# Altium footprint library rcl.PCBLIB: 487 footprints (part 19 of 31)
Each footprint in its own frame and in the unit in brackets; x right, y up, seen from the top. Pads: shape width x height; smd on the part's side, far side on the other; paste and mask are expansions set on the pad; w line width, h text height; cw(c..) or ccw(c..) is an arc to the next point about the centre after c.
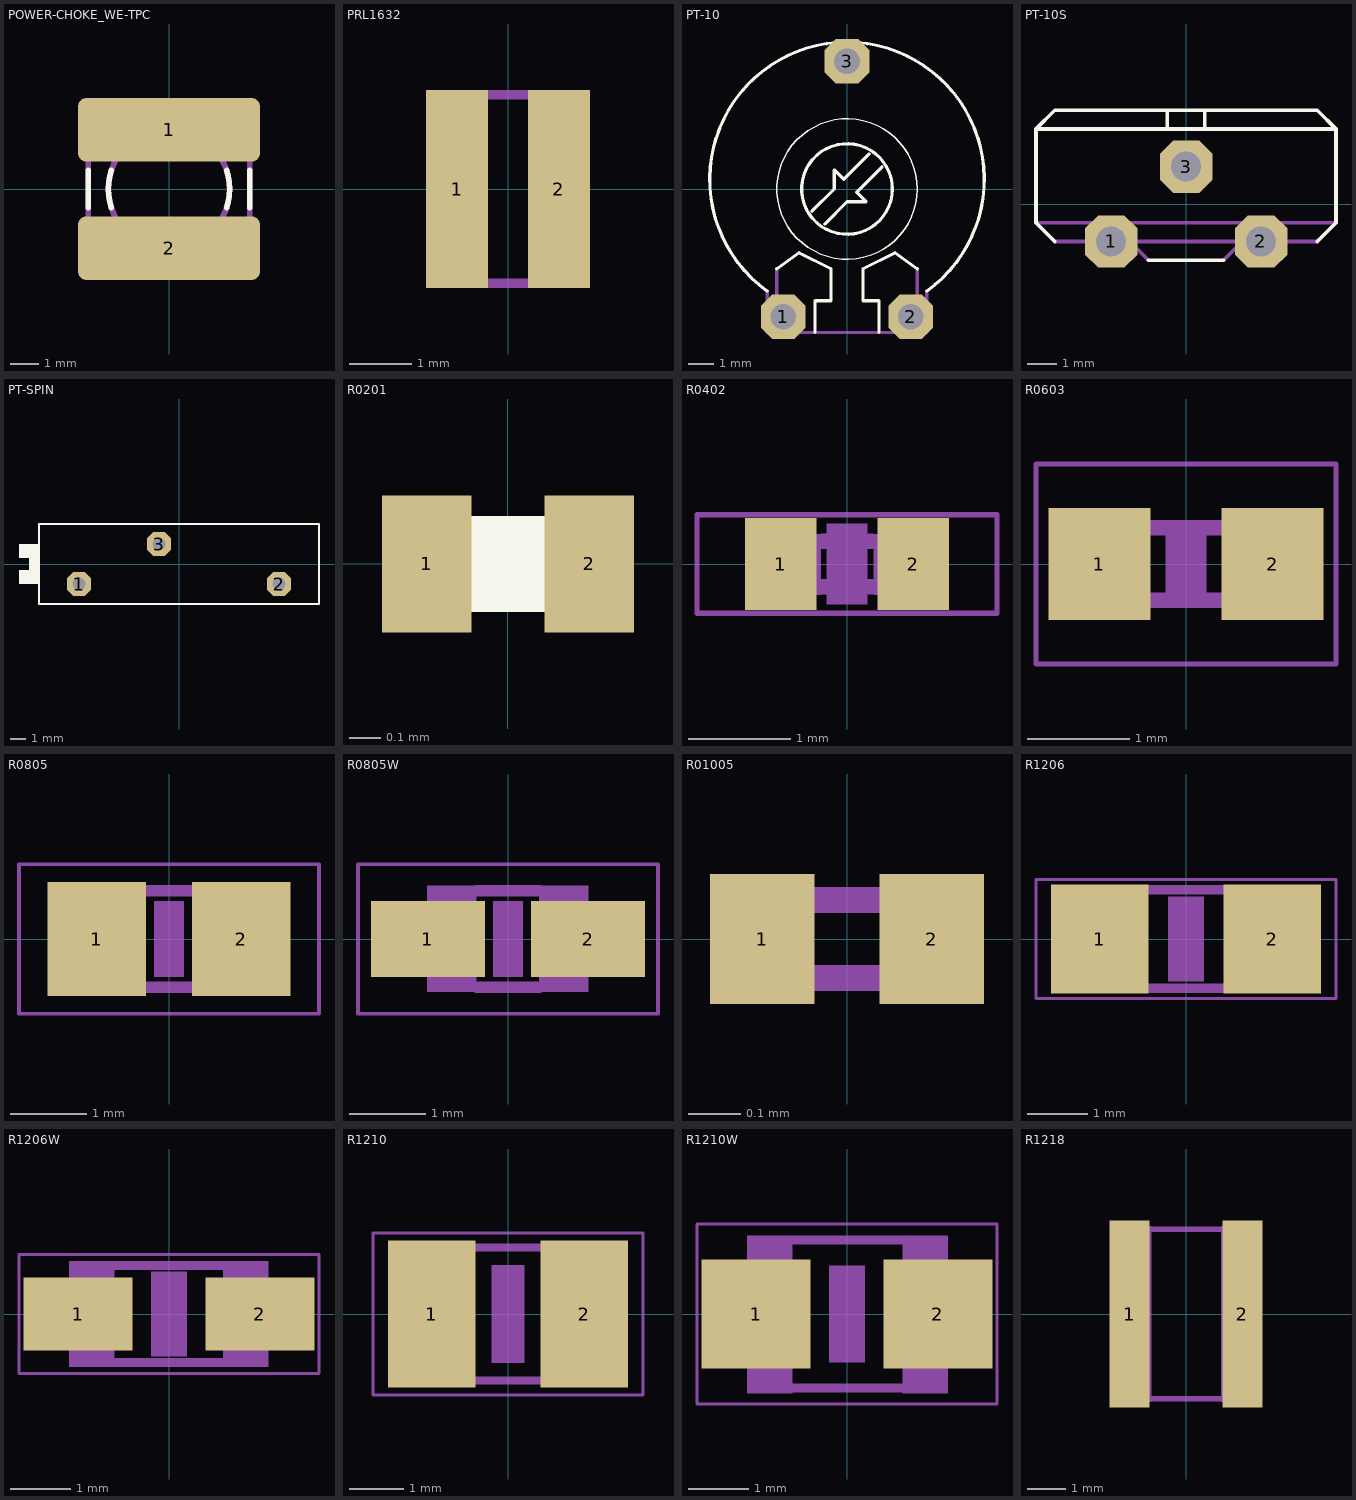
[diagram p18: the footprints below, top view; thin cyan lines are the x and y axes]

## POWER-CHOKE_WE-TPC [mil]
pads (2):
  rrect25% 248.03x86.61 smd: 1(0,80.71) 2(0,-80.71)
Top Overlay:
  lines w7.87: -110.24,-25.59 -110.24,25.59 ; -78.74,-25.59 cw(c0,0) -78.74,25.59 ; 78.74,-25.59 ccw(c0,0) 78.74,25.59 ; 110.24,-25.59 110.24,25.59
Mechanical 16:
  circle w7.87: c0,0 r82.68
  lines w7.87: -110.24,-90.55 ccw(c-90.55,-90.55) -90.55,-110.24 90.55,-110.24 ccw(c90.55,-90.55) 110.24,-90.55 110.24,90.55 ccw(c90.55,90.55) 90.55,110.24 -90.55,110.24 ccw(c-90.55,90.55) -110.24,90.55 -110.24,-90.55

## PRL1632 [mm]
pads (2):
  rect 1x3.2 smd: 1(-0.822,0) 2(0.822,0)
Mechanical 16:
  rectangle: -0.8,-1.6 -0.4,1.6
  rectangle: 0.4,-1.6 0.8,1.6
  lines w0.152: -0.728,-1.523 0.727,-1.523 ; -0.715,1.523 0.727,1.523

## PT-10 [mil]
pads (3):
  oct 70x70 hole 40: 1(-100,-200) 2(100,-200) 3(0,200)
Top Overlay:
  circle w2: c0,0 r110
  circle w5: c0,0 r71
  lines w5: -125,-160 cw(c0,15) 125,-160 ; -110,-125 -75,-100 -25,-125 -25,-175 -50,-175 -50,-225 ; -55,-35 -20,0 -20,30 -5,15 35,55 ; -35,-55 0,-20 30,-20 15,-5 55,35 ; 50,-225 50,-175 25,-175 25,-125 75,-100 110,-125
Mechanical 16:
  lines w5: -125,-160 -125,-225 125,-225 125,-160 ; -110,-225 -110,-125 ; 110,-225 110,-125

## PT-10S [mil]
pads (3):
  oct 70x70 hole 40: 1(-100,-50) 2(100,-50) 3(0,50)
Top Overlay:
  lines w5: -175,-50 -200,-25 -200,100 ; -50,-75 50,-75 ; -25,100 -25,125 ; 25,100 25,125 ; 175,-50 200,-25 200,100 ; -200,100 200,100 ; -200,100 -175,125 175,125 200,100
Mechanical 16:
  lines w5: -200,-25 200,-25 ; -175,-50 175,-50 ; -75,-50 -50,-75 ; 50,-75 75,-50

## PT-SPIN [mil]
pads (3):
  oct 60x60 hole 32: 1(-250,-50) 2(250,-50) 3(-50,50)
Top Overlay:
  rectangle: -400,-50 -375,-15
  rectangle: -400,15 -375,50
  rectangle: -375,-50 -350,50
  lines w5: -350,-100 -350,100 350,100 350,-100 -350,-100

## R0201 [mm]
pads (2):
  rect 0.28x0.43 smd: 1(-0.255,0) 2(0.255,0)
Top Overlay:
  rectangle: -0.15,-0.15 0.15,0.15
Mechanical 16:
  rectangle: -0.3,-0.15 -0.15,0.15
  rectangle: 0.15,-0.15 0.3,0.15

## R0402 [mm]
pads (2):
  rect 0.7x0.9 smd: 1(-0.65,0) 2(0.65,0)
Mechanical 6:
  rectangle: -0.2,-0.4 0.2,0.4
Mechanical 16:
  rectangle: 0.259,-0.305 0.559,0.295
  rectangle: -0.554,-0.305 -0.254,0.295
  lines w0.152: -0.245,-0.224 0.245,-0.224 ; -0.245,0.224 0.245,0.224
Mechanical 27:
  lines w0.051: -1.473,-0.483 -1.473,0.483 1.473,0.483 1.473,-0.483 -1.473,-0.483

## R0603 [mm]
pads (2):
  rect 1x1.1 smd: 1(-0.85,0) 2(0.85,0)
Mechanical 6:
  rectangle: -0.2,-0.4 0.2,0.4
Mechanical 16:
  rectangle: -0.838,-0.432 -0.432,0.432
  rectangle: 0.432,-0.432 0.838,0.432
  lines w0.152: -0.432,-0.356 0.432,-0.356 ; -0.432,0.356 0.432,0.356
Mechanical 27:
  lines w0.051: -1.473,-0.983 -1.473,0.983 1.473,0.983 1.473,-0.983 -1.473,-0.983

## R0805 [mil]
pads (2):
  rect 51.18x59.06 smd: 1(-37.4,0) 2(37.4,0)
Mechanical 6:
  rectangle: -7.87,-19.69 7.87,19.69
Mechanical 16:
  rectangle: 16,-27.5 41.59,27.62
  rectangle: -42,-27.5 -16.41,27.62
  lines w6: -16.14,-25 16.14,-25 ; -16.14,25 16.14,25
Mechanical 27:
  lines w2: -77.68,-38.7 77.68,-38.7 77.68,38.7 -77.68,38.7 -77.68,-38.7
3D body: height 29.92, standoff 0, extent -45.27,-26.57 45.28,26.58

## R0805W [mm]
pads (2):
  rect 1.5x1 smd: 1(-1.053,0) 2(1.053,0)
Mechanical 6:
  rectangle: -0.2,-0.5 0.2,0.5
Mechanical 16:
  rectangle: -1.067,-0.699 -0.417,0.702
  rectangle: 0.406,-0.699 1.056,0.702
  lines w0.152: -0.41,-0.635 0.41,-0.635 ; -0.41,0.635 0.41,0.635
Mechanical 27:
  lines w0.051: -1.973,-0.983 -1.973,0.983 1.973,0.983 1.973,-0.983 -1.973,-0.983

## R01005 [mil]
pads (2):
  rect 7.87x9.84 smd: 1(-6.4,0) 2(6.4,0)
Mechanical 16:
  rectangle: -7.87,-3.94 -2.95,3.94
  rectangle: 2.95,-3.94 7.87,3.94
  rectangle: -5.91,1.97 5.91,3.94
  rectangle: -5.91,-3.94 5.91,-1.97

## R1206 [mil]
pads (2):
  rect 62.99x70.98 smd: 1(-55.98,0) 2(55.98,0)
Mechanical 6:
  rectangle: -11.81,-27.56 11.81,27.56
Mechanical 16:
  rectangle: 37.5,-34.5 66.5,34.5
  rectangle: -66.5,-34.5 -37.5,34.5
  lines w6: -38,-32 37.5,-32 ; -38,32 37.5,32
Mechanical 27:
  lines w2: -97.36,-38.7 -97.36,38.7 97.36,38.7 97.36,-38.7 -97.36,-38.7

## R1206W [mil]
pads (2):
  rect 70.87x47.24 smd: 1(-59.02,0) 2(59.02,0)
Mechanical 6:
  rectangle: -11.81,-27.56 11.81,27.56
Mechanical 16:
  rectangle: 35,-34.5 64.53,34.4
  rectangle: -65,-34.5 -35.47,34.4
  lines w6: -35.94,-31.5 34.96,-31.5 ; -35.94,31.5 34.96,31.5
Mechanical 27:
  lines w2: -97.36,-38.7 -97.36,38.7 97.36,38.7 97.36,-38.7 -97.36,-38.7

## R1210 [mil]
pads (2):
  rect 62.99x106.3 smd: 1(-55.12,0) 2(55.12,0)
Mechanical 6:
  rectangle: -11.81,-35.43 11.81,35.43
Mechanical 16:
  rectangle: -65,-51.5 -35.47,50.86
  rectangle: 36,-51.5 65.53,50.86
  lines w6: -35.94,-47.99 36.97,-47.99 ; -35.94,47.99 36.97,47.99
Mechanical 27:
  lines w2: -97.36,-58.39 97.36,-58.39 97.36,58.39 -97.36,58.39 -97.36,-58.39

## R1210W [mil]
pads (2):
  rect 70.87x70.87 smd: 1(-59.02,0) 2(59.02,0)
Mechanical 6:
  rectangle: -11.81,-31.5 11.81,31.5
Mechanical 16:
  rectangle: 36,-51.5 65.53,50.86
  rectangle: -65,-51.5 -35.47,50.86
  lines w6: -35.94,-47.99 36.97,-47.99 ; -35.94,47.99 36.97,47.99
Mechanical 27:
  lines w2: -97.36,-58.39 -97.36,58.39 97.36,58.39 97.36,-58.39 -97.36,-58.39

## R1218 [mil]
pads (2):
  rect 41.34x192.91 smd: 1(-58.07,0) 2(58.07,0)
Mechanical 16:
  rectangle: -65,-90.55 -35.47,90.55
  rectangle: 36,-90.55 65.53,90.55
  lines w6: -36.97,87.36 35.94,87.36 ; -35.94,-87.36 36.97,-87.36